# Altium footprint library PQFP-240_32x32x05P.PcbLib: 1 footprints
Each footprint in its own frame and in the unit in brackets; x right, y up, seen from the top. Pads: shape width x height; smd on the part's side, far side on the other; paste and mask are expansions set on the pad; w line width, h text height; cw(c..) or ccw(c..) is an arc to the next point about the centre after c.
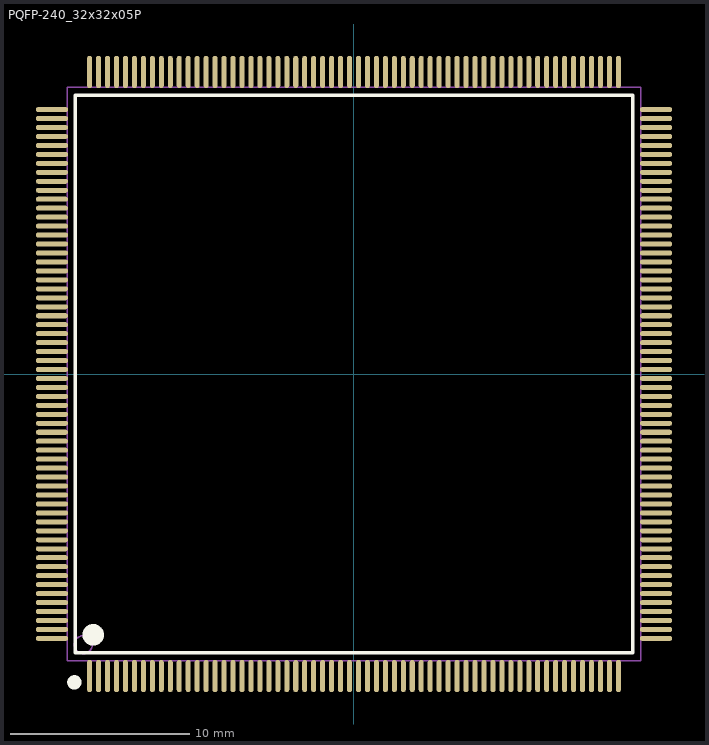
[diagram p0: the footprint, top view; thin cyan lines are the x and y axes]

## PQFP-240_32x32x05P [mm]
pads (240):
  oval 0.28x1.8 smd mask+0.051: 1(-14.75,-16.85) 2(-14.25,-16.85) 3(-13.75,-16.85) 4(-13.25,-16.85) 5(-12.75,-16.85) 6(-12.25,-16.85) 7(-11.75,-16.85) 8(-11.25,-16.85) 9(-10.75,-16.85) 10(-10.25,-16.85) 11(-9.75,-16.85) 12(-9.25,-16.85) 13(-8.75,-16.85) 14(-8.25,-16.85) 15(-7.75,-16.85) 16(-7.25,-16.85) 17(-6.75,-16.85) 18(-6.25,-16.85) 19(-5.75,-16.85) 20(-5.25,-16.85) 21(-4.75,-16.85) 22(-4.25,-16.85) 23(-3.75,-16.85) 24(-3.25,-16.85) 25(-2.75,-16.85) 26(-2.25,-16.85) 27(-1.75,-16.85) 28(-1.25,-16.85) 29(-0.75,-16.85) 30(-0.25,-16.85) 31(0.25,-16.85) 32(0.75,-16.85) 33(1.25,-16.85) 34(1.75,-16.85) 35(2.25,-16.85) 36(2.75,-16.85) 37(3.25,-16.85) 38(3.75,-16.85) 39(4.25,-16.85) 40(4.75,-16.85) 41(5.25,-16.85) 42(5.75,-16.85) 43(6.25,-16.85) 44(6.75,-16.85) 45(7.25,-16.85) 46(7.75,-16.85) 47(8.25,-16.85) 48(8.75,-16.85) 49(9.25,-16.85) 50(9.75,-16.85) 51(10.25,-16.85) 52(10.75,-16.85) 53(11.25,-16.85) 54(11.75,-16.85) 55(12.25,-16.85) 56(12.75,-16.85) 57(13.25,-16.85) 58(13.75,-16.85) 59(14.25,-16.85) 60(14.75,-16.85) 121(14.75,16.85) 122(14.25,16.85) 123(13.75,16.85) 124(13.25,16.85) 125(12.75,16.85) 126(12.25,16.85) 127(11.75,16.85) 128(11.25,16.85) 129(10.75,16.85) 130(10.25,16.85) 131(9.75,16.85) 132(9.25,16.85) 133(8.75,16.85) 134(8.25,16.85) 135(7.75,16.85) 136(7.25,16.85) 137(6.75,16.85) 138(6.25,16.85) 139(5.75,16.85) 140(5.25,16.85) 141(4.75,16.85) 142(4.25,16.85) 143(3.75,16.85) 144(3.25,16.85) 145(2.75,16.85) 146(2.25,16.85) 147(1.75,16.85) 148(1.25,16.85) 149(0.75,16.85) 150(0.25,16.85) 151(-0.25,16.85) 152(-0.75,16.85) 153(-1.25,16.85) 154(-1.75,16.85) 155(-2.25,16.85) 156(-2.75,16.85) 157(-3.25,16.85) 158(-3.75,16.85) 159(-4.25,16.85) 160(-4.75,16.85) 161(-5.25,16.85) 162(-5.75,16.85) 163(-6.25,16.85) 164(-6.75,16.85) 165(-7.25,16.85) 166(-7.75,16.85) 167(-8.25,16.85) 168(-8.75,16.85) 169(-9.25,16.85) 170(-9.75,16.85) 171(-10.25,16.85) 172(-10.75,16.85) 173(-11.25,16.85) 174(-11.75,16.85) 175(-12.25,16.85) 176(-12.75,16.85) 177(-13.25,16.85) 178(-13.75,16.85) 179(-14.25,16.85) 180(-14.75,16.85)
  oval 1.8x0.28 smd mask+0.051: 61(16.85,-14.75) 62(16.85,-14.25) 63(16.85,-13.75) 64(16.85,-13.25) 65(16.85,-12.75) 66(16.85,-12.25) 67(16.85,-11.75) 68(16.85,-11.25) 69(16.85,-10.75) 70(16.85,-10.25) 71(16.85,-9.75) 72(16.85,-9.25) 73(16.85,-8.75) 74(16.85,-8.25) 75(16.85,-7.75) 76(16.85,-7.25) 77(16.85,-6.75) 78(16.85,-6.25) 79(16.85,-5.75) 80(16.85,-5.25) 81(16.85,-4.75) 82(16.85,-4.25) 83(16.85,-3.75) 84(16.85,-3.25) 85(16.85,-2.75) 86(16.85,-2.25) 87(16.85,-1.75) 88(16.85,-1.25) 89(16.85,-0.75) 90(16.85,-0.25) 91(16.85,0.25) 92(16.85,0.75) 93(16.85,1.25) 94(16.85,1.75) 95(16.85,2.25) 96(16.85,2.75) 97(16.85,3.25) 98(16.85,3.75) 99(16.85,4.25) 100(16.85,4.75) 101(16.85,5.25) 102(16.85,5.75) 103(16.85,6.25) 104(16.85,6.75) 105(16.85,7.25) 106(16.85,7.75) 107(16.85,8.25) 108(16.85,8.75) 109(16.85,9.25) 110(16.85,9.75) 111(16.85,10.25) 112(16.85,10.75) 113(16.85,11.25) 114(16.85,11.75) 115(16.85,12.25) 116(16.85,12.75) 117(16.85,13.25) 118(16.85,13.75) 119(16.85,14.25) 120(16.85,14.75) 181(-16.85,14.75) 182(-16.85,14.25) 183(-16.85,13.75) 184(-16.85,13.25) 185(-16.85,12.75) 186(-16.85,12.25) 187(-16.85,11.75) 188(-16.85,11.25) 189(-16.85,10.75) 190(-16.85,10.25) 191(-16.85,9.75) 192(-16.85,9.25) 193(-16.85,8.75) 194(-16.85,8.25) 195(-16.85,7.75) 196(-16.85,7.25) 197(-16.85,6.75) 198(-16.85,6.25) 199(-16.85,5.75) 200(-16.85,5.25) 201(-16.85,4.75) 202(-16.85,4.25) 203(-16.85,3.75) 204(-16.85,3.25) 205(-16.85,2.75) 206(-16.85,2.25) 207(-16.85,1.75) 208(-16.85,1.25) 209(-16.85,0.75) 210(-16.85,0.25) 211(-16.85,-0.25) 212(-16.85,-0.75) 213(-16.85,-1.25) 214(-16.85,-1.75) 215(-16.85,-2.25) 216(-16.85,-2.75) 217(-16.85,-3.25) 218(-16.85,-3.75) 219(-16.85,-4.25) 220(-16.85,-4.75) 221(-16.85,-5.25) 222(-16.85,-5.75) 223(-16.85,-6.25) 224(-16.85,-6.75) 225(-16.85,-7.25) 226(-16.85,-7.75) 227(-16.85,-8.25) 228(-16.85,-8.75) 229(-16.85,-9.25) 230(-16.85,-9.75) 231(-16.85,-10.25) 232(-16.85,-10.75) 233(-16.85,-11.25) 234(-16.85,-11.75) 235(-16.85,-12.25) 236(-16.85,-12.75) 237(-16.85,-13.25) 238(-16.85,-13.75) 239(-16.85,-14.25) 240(-16.85,-14.75)
Top Overlay:
  circle w0.6: c-14.55,-14.55 r0.3
  circle w0.4: c-15.6,-17.2 r0.2
  lines w0.2: -15.55,-15.55 -15.55,15.55 15.55,15.55 15.55,-15.55 -15.55,-15.55
Mechanical 13:
  circle w0.1: c-15.1,-15.1 r0.5
  lines w0.1: -16,-16 -16,16 16,16 16,-16 -16,-16